# EAGLE library part PINHEAD-1X6 (library BaseApp)
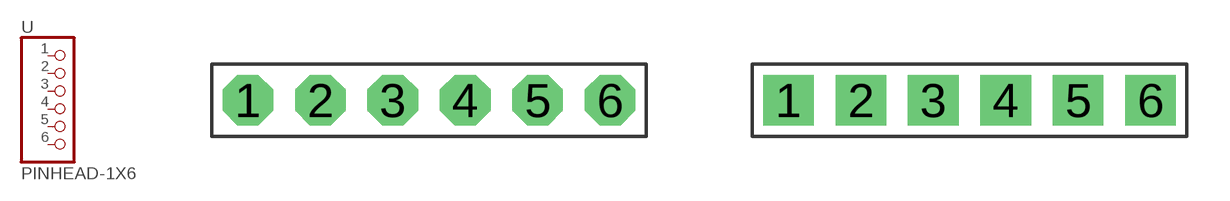
[diagram p65: symbol with the pads of PINHEAD-1X6; footprints PINHEAD-1X6, PINHEAD-1X6-SQUARE]

Designator prefix -

## PINHEAD-1X6 (DIGIKEY: 952-2270-ND; PRICE_PER_UNIT: 0.23)  [PINHEAD-1X6]
1  1  pas
2  2  pas
3  3  pas
4  4  pas
5  5  pas
6  6  pas

## PINHEAD-1X6.  [PINHEAD-1X6-SQUARE]
Pads as for PINHEAD-1X6

## PINHEAD-1X6-2MM  [PINHEAD-1X6-2MM]
Pads as for PINHEAD-1X6

## Footprint PINHEAD-1X6 (pad centres in mm)
drill 1.016 pad 1.778 octagon: 1 -6.35,0; 2 -3.81,0; 3 -1.27,0; 4 1.27,0; 5 3.81,0; 6 6.35,0

## Footprint PINHEAD-1X6-SQUARE (pad centres in mm)
drill 1.016 pad 1.778 square: 1 -6.35,0; 2 -3.81,0; 3 -1.27,0; 4 1.27,0; 5 3.81,0; 6 6.35,0

## Footprint PINHEAD-1X6-2MM (pad centres in mm)
drill 1.016 pad 1.422 octagon: 1 -5,0; 2 -3,0; 3 -1,0; 4 1,0; 5 3,0; 6 5,0